# EAGLE library part YC_TC164-JR-07 (library Yageo)
This specification describes YC164 (convex) and TC164 (concave) series chip resistor arrays with lead-free terminations made by thick film process.
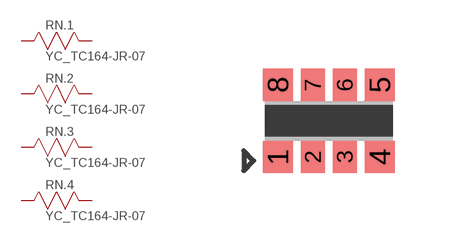
[diagram p0: symbol with the pads of YC164; footprint YC164]

Designator prefix RN; gates .1=R .2=R .3=R .4=R

## YC_TC164-JR-07Y  [YC164]
1  .1:P$1  pas
2  .2:P$1  pas
3  .3:P$1  pas
4  .4:P$1  pas
5  .4:P$2  pas
6  .3:P$2  pas
7  .2:P$2  pas
8  .1:P$2  pas

## Footprint YC164 (pad centres in mm)
smd 0.75 x 0.8: 1 -1.275,-0.9; 4 1.275,-0.9; 5 1.275,0.9; 8 -1.275,0.9
smd 0.6 x 0.8: 2 -0.4,-0.9; 3 0.4,-0.9; 6 0.4,0.9; 7 -0.4,0.9